# Altium footprint library ES_Pcb.PcbLib: 383 footprints (part 11 of 24)
Each footprint in its own frame and in the unit in brackets; x right, y up, seen from the top. Pads: shape width x height; smd on the part's side, far side on the other; paste and mask are expansions set on the pad; w line width, h text height; cw(c..) or ccw(c..) is an arc to the next point about the centre after c.
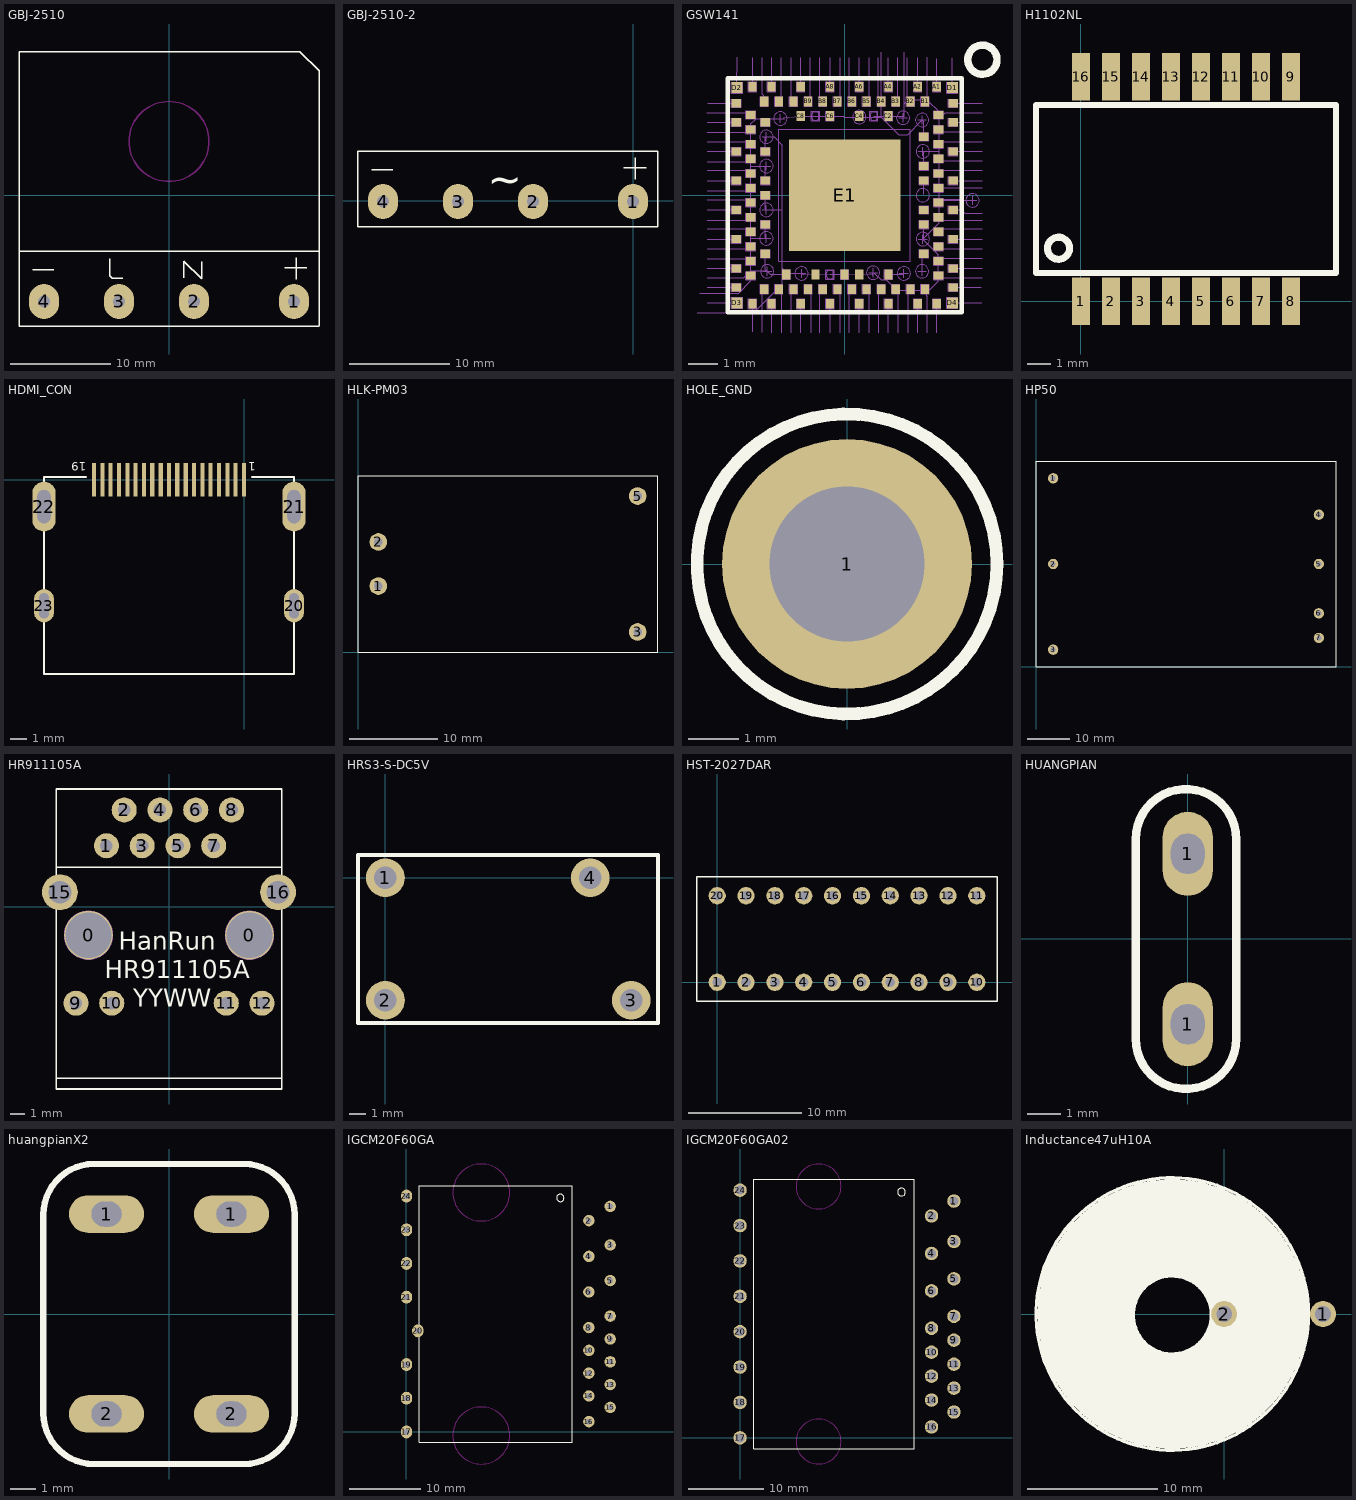
[diagram p10: the footprints below, top view; thin cyan lines are the x and y axes]

## GBJ-2510 [mm]
pads (4):
  oval 3x3.5 hole 1.2: 1(12.5,-10.617) 2(2.5,-10.617) 3(-5,-10.617) 4(-12.5,-10.617)
Top Overlay:
  lines w0.127: -15,-5.617 14.986,-5.617 ; -15,14.376 -15,-13.117 14.986,-13.117 ; -15,14.383 13.075,14.383 15,12.457 15,12.395 15,-13.117 ; -13.614,-7.442 -11.532,-7.442 ; -5.918,-6.325 -5.918,-8.052 -5.69,-8.28 -4.623,-8.28 ; 1.499,-8.255 1.499,-6.579 3.251,-8.331 3.251,-6.629 ; 11.557,-7.264 13.792,-7.264 ; 12.725,-8.407 12.725,-6.248
Keep-Out Layer:
  circle w0.127: c0,5.383 r4

## GBJ-2510-2 [mm]
pads (4):
  oval 3x3.5 hole 1.2: 1(0,-0.051) 2(-10,-0.051) 3(-17.5,-0.051) 4(-25,-0.051)
Top Overlay:
  lines w0.127: -26.114,3.124 -24.032,3.124 ; -0.943,3.302 1.292,3.302 ; 0.225,2.159 0.225,4.318 ; -27.5,-2.551 2.413,-2.551 2.486,-2.551 2.486,4.949 -27.5,4.949 -27.5,-2.551
  text "~" at -14.554,0.711 h3

## GSW141 [mil]
pads (106):
  rect 11x13 smd mask+1: A1(124.02,146.06) A2(98.43,146.06) A4(59.06,146.06) A6(19.69,146.06) A8(-19.68,146.06) A10(-59.05,146.06) A12(-98.43,146.06) A13(-124.02,146.06) A27(-124.02,-146.06) A28(-98.43,-146.06) A30(-59.05,-146.06) A32(-19.68,-146.06) A34(19.69,-146.06) A36(59.06,-146.06) A38(98.43,-146.06) A39(124.02,-146.06) B1(108.27,126.38) B2(88.58,126.38) B3(68.9,126.38) B4(49.21,126.38) B5(29.53,126.38) B6(9.84,126.38) B7(-9.84,126.38) B8(-29.53,126.38) B9(-49.21,126.38) B10(-68.9,126.38) B11(-88.58,126.38) B12(-108.27,126.38) B25(-108.27,-126.38) B26(-88.58,-126.38) B27(-68.9,-126.38) B28(-49.21,-126.38) B29(-29.53,-126.38) B30(-9.84,-126.38) B31(9.84,-126.38) B32(29.53,-126.38) B33(49.21,-126.38) B34(68.9,-126.38) B35(88.58,-126.38) B36(108.27,-126.38) C2(59.06,106.69) C4(19.69,106.69) C6(-19.68,106.69) C8(-59.05,106.69) C21(-78.74,-106.69) C23(-39.37,-106.69) C25(0,-106.69) C26(19.69,-106.69) C28(59.06,-106.69)
  rect 13x11 smd mask+1: A14(-146.06,124.02) A15(-146.06,98.43) A17(-146.06,59.06) A19(-146.06,19.69) A21(-146.06,-19.68) A23(-146.06,-59.05) A25(-146.06,-98.43) A26(-146.06,-124.02) A40(146.06,-124.02) A41(146.06,-98.43) A43(146.06,-59.05) A45(146.06,-19.68) A47(146.06,19.69) A49(146.06,59.06) A51(146.06,98.43) A52(146.06,124.02) B13(-126.38,108.27) B14(-126.38,88.58) B15(-126.38,68.9) B16(-126.38,49.21) B17(-126.38,29.53) B18(-126.38,9.84) B19(-126.38,-9.84) B20(-126.38,-29.53) B21(-126.38,-49.21) B22(-126.38,-68.9) B23(-126.38,-88.58) B24(-126.38,-108.27) B37(126.38,-108.27) B38(126.38,-88.58) B39(126.38,-68.9) B40(126.38,-49.21) B41(126.38,-29.53) B42(126.38,-9.84) B43(126.38,9.84) B44(126.38,29.53) B45(126.38,49.21) B46(126.38,68.9) B47(126.38,88.58) B48(126.38,108.27) C10(-106.69,98.43) C12(-106.69,59.06) C14(-106.69,19.69) C15(-106.69,0) C17(-106.69,-39.37) C19(-106.69,-78.74) C31(106.69,-78.74) C33(106.69,-39.37) C34(106.69,-19.68) C36(106.69,19.69) C37(106.69,39.37) C39(106.69,78.74)
  rect 14.96x14.96 smd mask+1: D1(145,145) D2(-145,145) D3(-145,-145) D4(145,-145)
  rect 150x150 smd mask+1: E1(0,0)
Top Overlay:
  circle w10: c185.5,182.57 r19.68
  lines w6: -157.48,-157.48 157.48,-157.48 157.48,157.48 -157.48,157.48 -157.48,-157.48
Mechanical 8:
  drawing of 1655 lines, arcs and shapes, not listed

## H1102NL [mm]
pads (16):
  rect 0.76x2 smd: 1(0,0) 2(1.27,0) 3(2.54,0) 4(3.81,0) 5(5.08,0) 6(6.35,0) 7(7.62,0) 8(8.89,0) 9(8.89,9.5) 10(7.62,9.5) 11(6.35,9.5) 12(5.08,9.5) 13(3.81,9.5) 14(2.54,9.5) 15(1.27,9.5) 16(0,9.5)
Top Overlay:
  lines w0.254: -1.9,1.2 10.8,1.2 10.8,8.31 -1.9,8.31 -1.9,1.2
  lines w0.3: -0.479,2.273 ccw(c-0.946,2.241) -0.478,2.241

## HDMI_CON [mm]
pads (23):
  rect 0.25x2 smd: 1(0,0) 2(-0.5,0) 3(-1,0) 4(-1.5,0) 5(-2,0) 6(-2.5,0) 7(-3,0) 8(-3.5,0) 9(-4,0) 10(-4.5,0) 11(-5,0) 12(-5.5,0) 13(-6,0) 14(-6.5,0) 15(-7,0) 16(-7.5,0) 17(-8,0) 18(-8.5,0) 19(-9,0)
  oval 1.2x2 hole 0.6 slot 1.5 at 90 deg: 20(3,-7.57) 23(-12,-7.57)
  oval 1.4x3 hole 0.8 slot 2 at 90 deg: 21(3,-1.62) 22(-12,-1.62)
Top Overlay:
  lines w0.127: -9.484,0.155 -12,0.155 -12,-11.67 3,-11.67 3,0.155 0.484,0.155
  text "19" at -9.453,1.044 h0.5
  text "1" at 0.707,1.044 h0.5

## HLK-PM03 [mm]
pads (4):
  round 2 hole 1: 1(2.3,7.5) 2(2.3,12.5) 3(31.7,2.3) 5(31.7,17.7)
Top Overlay:
  lines w0.1: 0,0 0,20 34,20 34,0.142 34,0 0,0

## HOLE_GND [mm]
pads (1):
  round 5 hole 3.1: 1(0,0)
Top Overlay:
  circle w0.254: c0,0 r3

## HP50 [mm]
pads (7):
  round 2.4 hole 1.2: 1(4,44) 2(4,24) 3(4,4) 4(66,35.5) 5(66,24) 6(66,12.5) 7(66,6.75)
Top Overlay:
  lines w0.1: 0,0 0,48 70,48 70,0 0,0

## HR911105A [mil]
pads (16):
  round 136 hole 127.95: 0(-225,-80) 0(225,-80)
  round 70 hole 35: 1(-175,170) 2(-125.2,270) 3(-75,170) 4(-25.2,270) 5(25,170) 6(74.8,270) 7(125,170) 8(174.8,270) 9(-260,-270) 10(-160,-270) 11(160,-270) 12(260,-270)
  round 100 hole 64.17: 15(-304.92,40.08) 16(304.92,40.08)
Top Overlay:
  lines w5: -314.96,-480 314.96,-480 ; -314.96,110 314.96,110 ; -314.96,-509.92 314.96,-509.92 314.96,328.66 -314.96,328.66 -314.96,-509.92
  text "HanRun" at -140,-120 h50
  text "YYWW" at -100,-280 h50
  text "HR911105A" at -180,-200 h50
Mechanical 1:
  circle w10: c-225,-80 r63.98
  circle w10: c225,-80 r63.98

## HRS3-S-DC5V [mm]
pads (4):
  round 2.4 hole 1.4: 1(0,0) 2(0,-7.6) 3(15.24,-7.6) 4(12.7,0)
Top Overlay:
  lines w0.254: -1.7,-9 -1.7,1.4 16.9,1.4 16.9,-9 -1.7,-9

## HST-2027DAR [mil]
pads (20):
  round 60 hole 34: 1(0,0) 2(100,0) 3(200,0) 4(300,0) 5(400,0) 6(500,0) 7(600,0) 8(700,0) 9(800,0) 10(900,0) 11(900,300) 12(800,300) 13(700,300) 14(600,300) 15(500,300) 16(400,300) 17(300,300) 18(200,300) 19(100,300) 20(0,300)
Top Overlay:
  lines w5: -70,-66.53 -70,366.54 970,366.54 970,-66.53 -70,-66.53

## HUANGPIAN [mm]
pads (2):
  oval 1.5x2.5 hole 1 slot 1.2 at 90 deg: 1(0,-2.54) 1(0,2.54)
Top Overlay:
  lines w0.254: -1.552,-2.972 ccw(c-0.052,-2.972) 1.448,-2.972 1.448,2.972 ccw(c-0.052,2.972) -1.552,2.972 -1.552,-2.972

## huangpianX2 [mm]
pads (4):
  oval 3x1.5 hole 1 slot 1.2 at 0 deg: 1(-2.5,4) 1(2.5,4) 2(-2.5,-4) 2(2.5,-4)
Top Overlay:
  lines w0.254: -5.023,-3.977 ccw(c-3,-3.977) -3,-6 3,-6 ccw(c3,-3.977) 5.023,-3.977 5.023,3.977 ccw(c3,3.977) 3,6 -3,6 ccw(c-3,3.977) -5.023,3.977 -5.023,-3.977

## IGCM20F60GA [mm]
pads (24):
  round 1.6 hole 0.8: 1(28.6,31.66) 2(25.6,29.66) 3(28.6,26.25) 4(25.6,24.65) 5(28.6,21.25) 6(25.6,19.65) 7(28.6,16.25) 8(25.6,14.65) 9(28.6,13.05) 10(25.6,11.45) 11(28.6,9.85) 12(25.6,8.25) 13(28.6,6.65) 14(25.6,5.05) 15(28.6,3.45) 16(25.6,1.45)
  oval 1.6x1.8 hole 0.8: 17(0,0) 18(0,4.73) 19(0,9.46) 20(1.6,14.19) 21(0,18.92) 22(0,23.65) 23(0,28.38) 24(0,33.11)
Top Overlay:
  circle w0.127: c21.59,32.856 r0.524
  lines w0.127: 1.8,-1.45 23.3,-1.45 23.3,34.56 1.8,34.56 1.8,-1.45
Keep-Out Layer:
  circle w0.127: c10.5,33.61 r4
  circle w0.127: c10.5,-0.5 r4

## IGCM20F60GA02 [mm]
pads (24):
  round 1.8 hole 1.2: 1(28.6,31.66) 2(25.6,29.66) 3(28.6,26.25) 4(25.6,24.65) 5(28.6,21.25) 6(25.6,19.65) 7(28.6,16.25) 8(25.6,14.65) 9(28.6,13.05) 10(25.6,11.45) 11(28.6,9.85) 12(25.6,8.25) 13(28.6,6.65) 14(25.6,5.05) 15(28.6,3.45) 16(25.6,1.45) 17(0,0) 18(0,4.73) 19(0,9.46) 20(0,14.19) 21(0,18.92) 22(0,23.65) 23(0,28.38) 24(0,33.11)
Top Overlay:
  circle w0.127: c21.59,32.856 r0.524
  lines w0.127: 1.8,-1.45 1.8,34.56 23.3,34.56 23.3,-1.45 1.8,-1.45
Keep-Out Layer:
  circle w0.127: c10.5,-0.5 r3
  circle w0.127: c10.5,33.61 r3

## Inductance47uH10A [mm]
pads (2):
  round 2 hole 1.2: 1(7.62,0) 2(0,0)
Top Overlay:
  circle w7.35: c-4,0 r6.7
  circle w0.254: c-4,0 r10.5
  circle w0.254: c-4,-0.076 r3